# Altium footprint library IC_Texas_Instruments_BQ294700DSGR_eec_MFG.PcbLib: 1 footprints
Each footprint in its own frame and in the unit in brackets; x right, y up, seen from the top. Pads: shape width x height; smd on the part's side, far side on the other; paste and mask are expansions set on the pad; w line width, h text height; cw(c..) or ccw(c..) is an arc to the next point about the centre after c.
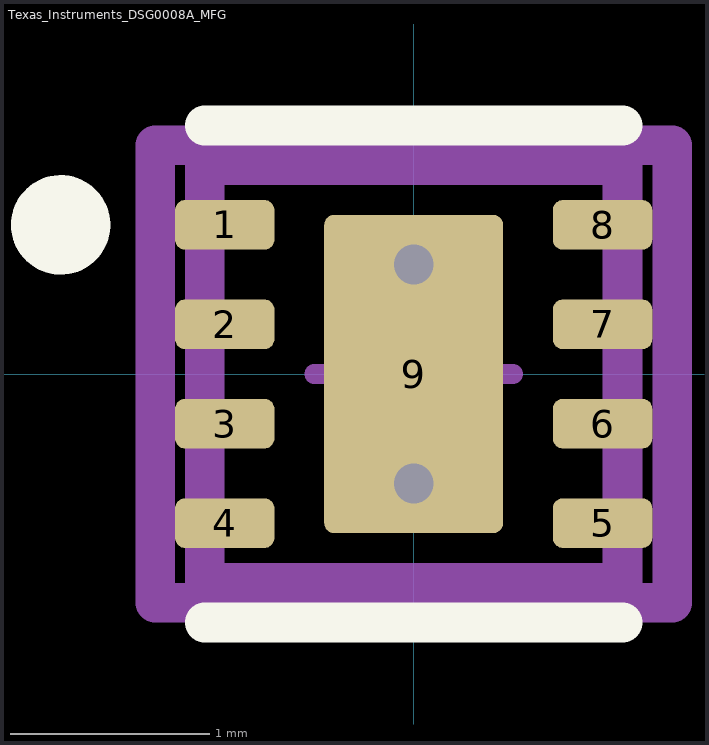
[diagram p0: the footprint, top view; thin cyan lines are the x and y axes]

## Texas_Instruments_DSG0008A_MFG [mm]
pads (9):
  rrect40% 0.5x0.25 smd paste+0 mask+0: 1(-0.95,0.75) 2(-0.95,0.25) 3(-0.95,-0.25) 4(-0.95,-0.75) 5(0.95,-0.75) 6(0.95,-0.25) 7(0.95,0.25) 8(0.95,0.75)
  rrect11% 0.9x1.6 smd paste-1000 mask+0: 9(0,0)
via 0,0.55 diameter 0.5 hole 0.2
via 0,-0.55 diameter 0.5 hole 0.2
Top Overlay:
  circle w0.25: c-1.775,0.75 r0.125
  lines w0.2: -1.05,-1.25 1.05,-1.25 ; -1.05,1.25 1.05,1.25
Top Paste:
  region: -0.45,0.75 -0.45,0.76 -0.442,0.778 -0.428,0.792 -0.41,0.8 -0.4,0.8 0.4,0.8 0.41,0.8 0.428,0.792 0.442,0.778 0.45,0.76 0.45,0.75 0.45,0.15 0.45,0.14 0.442,0.122 0.428,0.108 0.41,0.1 0.4,0.1 -0.4,0.1 -0.41,0.1 -0.428,0.108 -0.442,0.122 -0.45,0.14 -0.45,0.15
  region: -0.45,-0.15 -0.45,-0.14 -0.442,-0.122 -0.428,-0.108 -0.41,-0.1 -0.4,-0.1 0.4,-0.1 0.41,-0.1 0.428,-0.108 0.442,-0.122 0.45,-0.14 0.45,-0.15 0.45,-0.75 0.45,-0.76 0.442,-0.778 0.428,-0.792 0.41,-0.8 0.4,-0.8 -0.4,-0.8 -0.41,-0.8 -0.428,-0.792 -0.442,-0.778 -0.45,-0.76 -0.45,-0.75
Mechanical 10:
  lines w0.2: -1.3,-1.15 1.3,-1.15 1.3,1.15 -1.3,1.15 -1.3,-1.15
  text ".Designator" at 0,0.188 h1
Mechanical 12:
  lines w0.2: -1.05,-1.05 1.05,-1.05 1.05,1.05 -1.05,1.05 -1.05,-1.05
Mechanical 15:
  lines w0.1: -0.5,0 0.5,0 ; 0,-0.5 0,0.5
  lines w0.2: -1.3,-1.15 1.3,-1.15 1.3,1.15 -1.3,1.15 -1.3,-1.15
3D body "IC_Texas_Instruments_BQ294700DSGR_eec.STEP": height 0.25, standoff 0, extent -1.3,-1.15 1.3,1.15